# EAGLE library part MX34016NF1 (library MX34016NF1)
JAE MX34 Series, 2.2mm Pitch 16 Way 2 Row Right Angle PCB Header, Solder Termination, 3A Source: Datasheet <https://componentsearchengine.com/Datasheets/1/MX34016NF1.pdf>
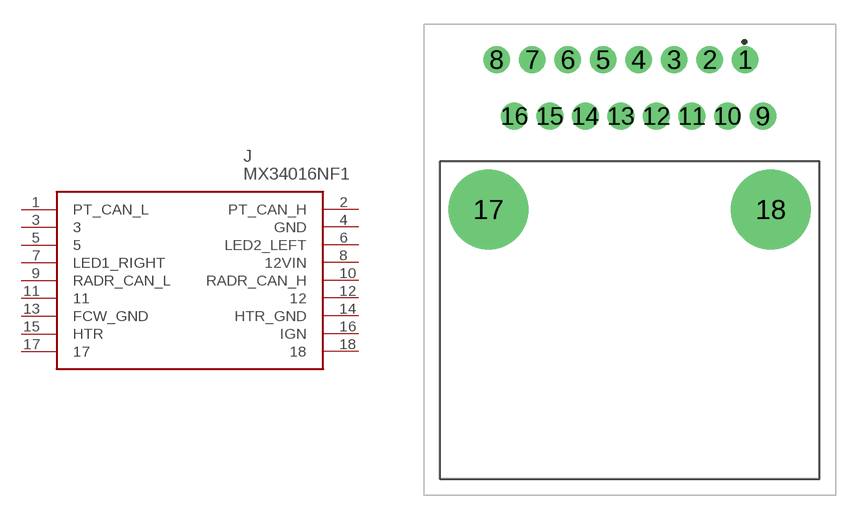
[diagram p0: symbol with the pads of MX34016NF1; footprint MX34016NF1]

Designator prefix J

## MX34016NF1 (DESCRIPTION: JAE MX34 Series, 2.2mm Pitch 16 Way 2 Row Right Angle PCB Header, Solder Termination, 3A; HEIGHT: 16mm; MANUFACTURER_NAME: JAE Electronics; MANUFACTURER_PART_NUMBER: MX34016NF1; MOUSER_PART_NUMBER: 656-MX34016NF1; MOUSER_PRICE-STOCK: https://www.mouser.com/Search/Refine.aspx?Keyword=656-MX34016NF1)  [MX34016NF1]
1  PT_CAN_L
2  PT_CAN_H
3  3  nc
4  GND
5  5  nc
6  LED2_LEFT
7  LED1_RIGHT
8  12VIN
9  RADR_CAN_L
10  RADR_CAN_H
11  11  nc
12  12  nc
13  FCW_GND
14  HTR_GND
15  HTR
16  IGN
17  17  nc
18  18  nc

## Footprint MX34016NF1 (pad centres in mm)
MX34016NF1
drill 1.1 pad 1.65: 1 7.15,12.4; 2 4.95,12.4; 3 2.75,12.4; 4 0.55,12.4; 5 -1.65,12.4; 6 -3.85,12.4; 7 -6.05,12.4; 8 -8.25,12.4; 9 8.25,8.9; 10 6.05,8.9; 11 3.85,8.9; 12 1.65,8.9; 13 -0.55,8.9; 14 -2.75,8.9; 15 -4.95,8.9; 16 -7.15,8.9
drill 3.3 pad 4.95: 17 -8.75,3.1; 18 8.75,3.1